# Altium integrated library Philips Microcontroller 16-Bit.IntLib: 30 symbols (part 2 of 2)
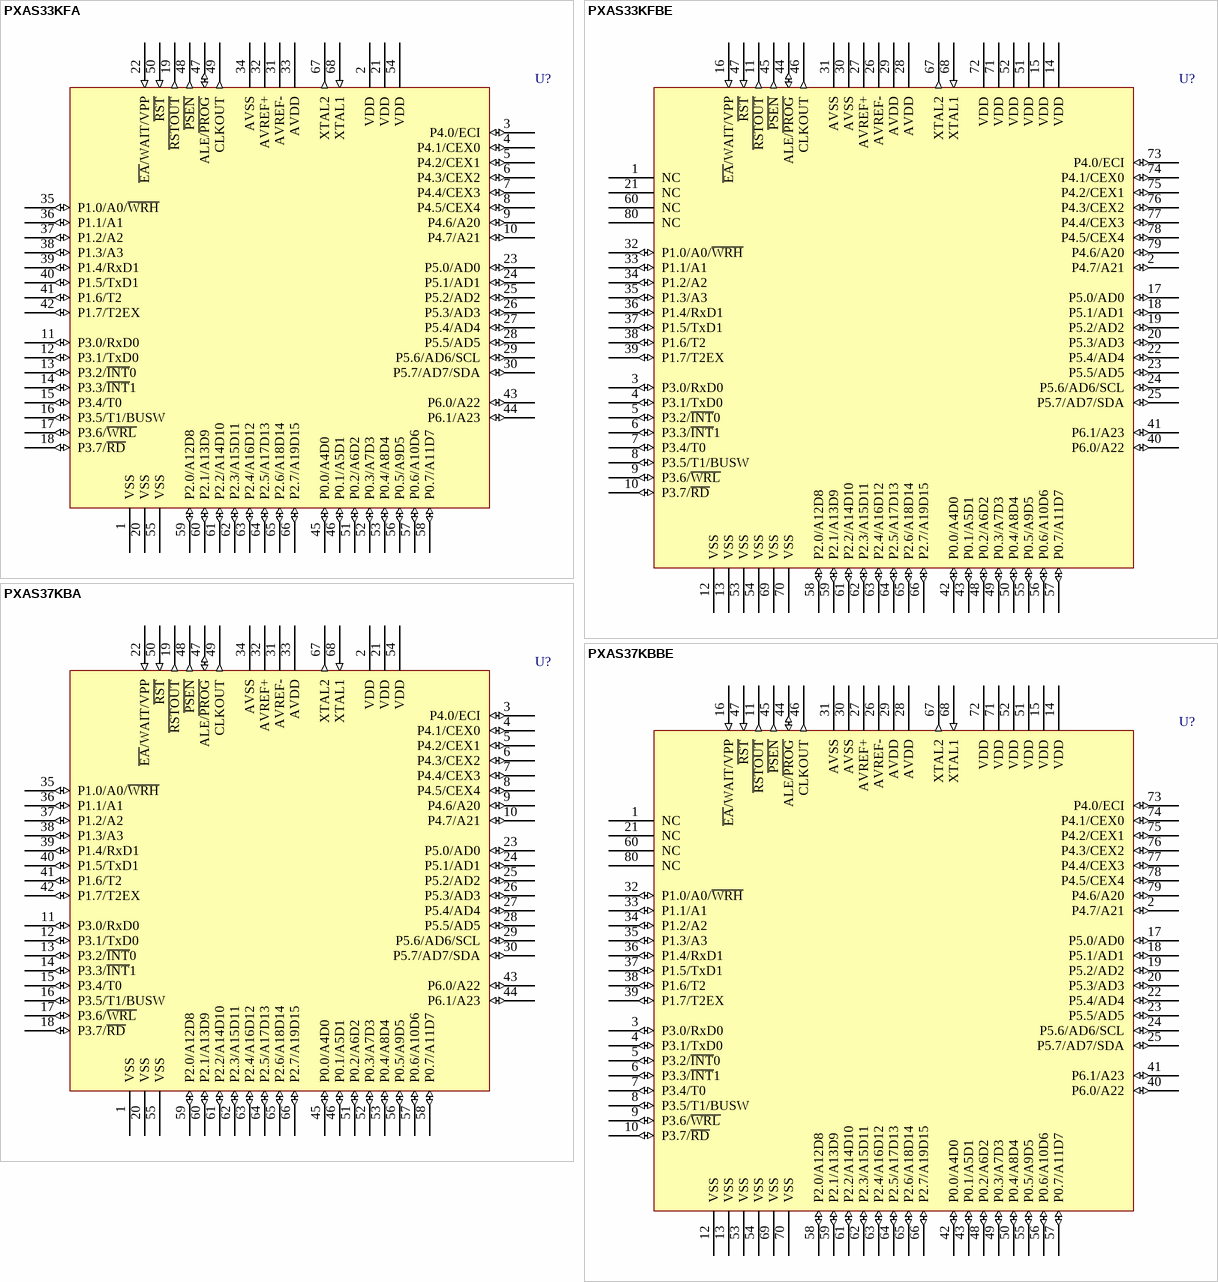
[diagram p6: symbols PXAS33KFA to PXAS37KBBE]

## PXAS33KFA
designator U?
XA 16-Bit Microcontroller Family, 32 K/1 K ROM, 8-Channel 8-bit A/D, Low Voltage (2.7 V - 5.5 V), I²C, 2 UARTs, 16 MB Address Range; Published: 21-May-2003; LatestRevisionDate: 13-Apr-2006; LatestRevisionNote: IPC-7351 Footprint Added.; DatasheetVersion: Dec-2000; PackageVersion: Dec-2000; PackageReference: SOT188-3; Publisher: Altium Limited; PackageDescription: 68-Pin Leaded Chip Carrier 1.27 mm Pitch; Code_JEDEC: MO-047; Code_IPC: PLCC-68; ComponentLink1Description: Manufacturer Link; ComponentLink1URL: http://www-us2.semiconductors.philips.com/; ComponentLink2Description: Datasheet; ComponentLink2URL: http://www.semiconductors.philips.com/acrobat/datasheets/XA-S3_10.pdf
footprint SOT188-3_N (Leaded Chip Carrier, 68-Leads, Body 24.2x24.2mm, Pitch 1.27mm, IPC Medium Density)
footprint SOT188-3_L (Leaded Chip Carrier, 68-Leads, Body 24.2x24.2mm, Pitch 1.27mm, IPC High Density)
footprint SOT188-3_M (Leaded Chip Carrier, 68-Leads, Body 24.2x24.2mm, Pitch 1.27mm, IPC Low Density)
pins: 1 VSS (power), 2 VDD (power), 3 P4.0/ECI (io), 4 P4.1/CEX0 (io), 5 P4.2/CEX1 (io), 6 P4.3/CEX2 (io), 7 P4.4/CEX3 (io), 8 P4.5/CEX4 (io), 9 P4.6/A20 (io), 10 P4.7/A21 (io), 11 P3.0/RxD0 (io), 12 P3.1/TxD0 (io), 13 P3.2/~{INT}0 (io), 14 P3.3/~{INT}1 (io), 15 P3.4/T0 (io), 16 P3.5/T1/BUSW (io), 17 P3.6/~{WRL} (io), 18 P3.7/~{RD} (io), 19 ~{RSTOUT} (out), 20 VSS (power), 21 VDD (power), 22 ~{EA}/WAIT/VPP (in), 23 P5.0/AD0 (io), 24 P5.1/AD1 (io), 25 P5.2/AD2 (io), 26 P5.3/AD3 (io), 27 P5.4/AD4 (io), 28 P5.5/AD5 (io), 29 P5.6/AD6/SCL (io), 30 P5.7/AD7/SDA (io), 31 AVREF-, 32 AVREF+, 33 AVDD (power), 34 AVSS (power), 35 P1.0/A0/~{WRH} (io), 36 P1.1/A1 (io), 37 P1.2/A2 (io), 38 P1.3/A3 (io), 39 P1.4/RxD1 (io), 40 P1.5/TxD1 (io), 41 P1.6/T2 (io), 42 P1.7/T2EX (io), 43 P6.0/A22 (io), 44 P6.1/A23 (io), 45 P0.0/A4D0 (io), 46 P0.1/A5D1 (io), 47 ALE/~{PROG} (io), 48 ~{PSEN} (out), 49 CLKOUT (out), 50 ~{RST} (in), 51 P0.2/A6D2 (io), 52 P0.3/A7D3 (io), 53 P0.4/A8D4 (io), 54 VDD (power), 55 VSS (power), 56 P0.5/A9D5 (io), 57 P0.6/A10D6 (io), 58 P0.7/A11D7 (io), 59 P2.0/A12D8 (io), 60 P2.1/A13D9 (io), 61 P2.2/A14D10 (io), 62 P2.3/A15D11 (io), 63 P2.4/A16D12 (io), 64 P2.5/A17D13 (io), 65 P2.6/A18D14 (io), 66 P2.7/A19D15 (io), 67 XTAL2 (out), 68 XTAL1 (in)

## PXAS33KFBE
designator U?
XA 16-Bit Microcontroller Family, 32 K/1 K ROM, 8-Channel 8-bit A/D, Low Voltage (2.7 V - 5.5 V), I²C, 2 UARTs, 16 MB Address Range; Published: 21-May-2003; LatestRevisionDate: 13-Apr-2006; LatestRevisionNote: IPC-7351 Footprint Added.; DatasheetVersion: Dec-2000; PackageVersion: Dec-2000; PackageReference: SOT315-1; Publisher: Altium Limited; PackageDescription: 80-Pin Thin Quad Flat Pack 0.5 mm Pitch; Code_JEDEC: MS-026; ComponentLink1Description: Manufacturer Link; ComponentLink1URL: http://www-us2.semiconductors.philips.com/; ComponentLink2Description: Datasheet; ComponentLink2URL: http://www.semiconductors.philips.com/acrobat/datasheets/XA-S3_10.pdf
footprint SOT315-1_N (Thin QFP, 80-Leads, Body 12x12mm, Pitch 0.5mm, IPC Medium Density)
footprint SOT315-1_L (Thin QFP, 80-Leads, Body 12x12mm, Pitch 0.5mm, IPC High Density)
footprint SOT315-1_M (Thin QFP, 80-Leads, Body 12x12mm, Pitch 0.5mm, IPC Low Density)
pins: 1 NC, 2 P4.7/A21 (io), 3 P3.0/RxD0 (io), 4 P3.1/TxD0 (io), 5 P3.2/~{INT}0 (io), 6 P3.3/~{INT}1 (io), 7 P3.4/T0 (io), 8 P3.5/T1/BUSW (io), 9 P3.6/~{WRL} (io), 10 P3.7/~{RD} (io), 11 ~{RSTOUT} (out), 12 VSS (power), 13 VSS (power), 14 VDD (power), 15 VDD (power), 16 ~{EA}/WAIT/VPP (in), 17 P5.0/AD0 (io), 18 P5.1/AD1 (io), 19 P5.2/AD2 (io), 20 P5.3/AD3 (io), 21 NC, 22 P5.4/AD4 (io), 23 P5.5/AD5 (io), 24 P5.6/AD6/SCL (io), 25 P5.7/AD7/SDA (io), 26 AVREF-, 27 AVREF+, 28 AVDD (power), 29 AVDD (power), 30 AVSS (power), 31 AVSS (power), 32 P1.0/A0/~{WRH} (io), 33 P1.1/A1 (io), 34 P1.2/A2 (io), 35 P1.3/A3 (io), 36 P1.4/RxD1 (io), 37 P1.5/TxD1 (io), 38 P1.6/T2 (io), 39 P1.7/T2EX (io), 40 P6.0/A22 (io), 41 P6.1/A23 (io), 42 P0.0/A4D0 (io), 43 P0.1/A5D1 (io), 44 ALE/~{PROG} (io), 45 ~{PSEN} (out), 46 CLKOUT (out), 47 ~{RST} (in), 48 P0.2/A6D2 (io), 49 P0.3/A7D3 (io), 50 P0.4/A8D4 (io), 51 VDD (power), 52 VDD (power), 53 VSS (power), 54 VSS (power), 55 P0.5/A9D5 (io), 56 P0.6/A10D6 (io), 57 P0.7/A11D7 (io), 58 P2.0/A12D8 (io), 59 P2.1/A13D9 (io), 60 NC, 61 P2.2/A14D10 (io), 62 P2.3/A15D11 (io), 63 P2.4/A16D12 (io), 64 P2.5/A17D13 (io), 65 P2.6/A18D14 (io), 66 P2.7/A19D15 (io), 67 XTAL2 (out), 68 XTAL1 (in), 69 VSS (power), 70 VSS (power), 71 VDD (power), 72 VDD (power), 73 P4.0/ECI (io), 74 P4.1/CEX0 (io), 75 P4.2/CEX1 (io), 76 P4.3/CEX2 (io), 77 P4.4/CEX3 (io), 78 P4.5/CEX4 (io), 79 P4.6/A20 (io), 80 NC

## PXAS37KBA
designator U?
XA 16-Bit Microcontroller Family, 32 K/1 K OTP, 8-Channel 8-bit A/D, Low Voltage (2.7 V - 5.5 V), I²C, 2 UARTs, 16 MB Address Range; Published: 21-May-2003; LatestRevisionDate: 13-Apr-2006; LatestRevisionNote: IPC-7351 Footprint Added.; DatasheetVersion: Dec-2000; PackageVersion: Dec-2000; PackageReference: SOT188-3; Publisher: Altium Limited; PackageDescription: 68-Pin Leaded Chip Carrier 1.27 mm Pitch; Code_JEDEC: MO-047; Code_IPC: PLCC-68; ComponentLink1Description: Manufacturer Link; ComponentLink1URL: http://www-us2.semiconductors.philips.com/; ComponentLink2Description: Datasheet; ComponentLink2URL: http://www.semiconductors.philips.com/acrobat/datasheets/XA-S3_10.pdf
footprint SOT188-3_N (Leaded Chip Carrier, 68-Leads, Body 24.2x24.2mm, Pitch 1.27mm, IPC Medium Density)
footprint SOT188-3_L (Leaded Chip Carrier, 68-Leads, Body 24.2x24.2mm, Pitch 1.27mm, IPC High Density)
footprint SOT188-3_M (Leaded Chip Carrier, 68-Leads, Body 24.2x24.2mm, Pitch 1.27mm, IPC Low Density)
pins: 1 VSS (power), 2 VDD (power), 3 P4.0/ECI (io), 4 P4.1/CEX0 (io), 5 P4.2/CEX1 (io), 6 P4.3/CEX2 (io), 7 P4.4/CEX3 (io), 8 P4.5/CEX4 (io), 9 P4.6/A20 (io), 10 P4.7/A21 (io), 11 P3.0/RxD0 (io), 12 P3.1/TxD0 (io), 13 P3.2/~{INT}0 (io), 14 P3.3/~{INT}1 (io), 15 P3.4/T0 (io), 16 P3.5/T1/BUSW (io), 17 P3.6/~{WRL} (io), 18 P3.7/~{RD} (io), 19 ~{RSTOUT} (out), 20 VSS (power), 21 VDD (power), 22 ~{EA}/WAIT/VPP (in), 23 P5.0/AD0 (io), 24 P5.1/AD1 (io), 25 P5.2/AD2 (io), 26 P5.3/AD3 (io), 27 P5.4/AD4 (io), 28 P5.5/AD5 (io), 29 P5.6/AD6/SCL (io), 30 P5.7/AD7/SDA (io), 31 AVREF-, 32 AVREF+, 33 AVDD (power), 34 AVSS (power), 35 P1.0/A0/~{WRH} (io), 36 P1.1/A1 (io), 37 P1.2/A2 (io), 38 P1.3/A3 (io), 39 P1.4/RxD1 (io), 40 P1.5/TxD1 (io), 41 P1.6/T2 (io), 42 P1.7/T2EX (io), 43 P6.0/A22 (io), 44 P6.1/A23 (io), 45 P0.0/A4D0 (io), 46 P0.1/A5D1 (io), 47 ALE/~{PROG} (io), 48 ~{PSEN} (out), 49 CLKOUT (out), 50 ~{RST} (in), 51 P0.2/A6D2 (io), 52 P0.3/A7D3 (io), 53 P0.4/A8D4 (io), 54 VDD (power), 55 VSS (power), 56 P0.5/A9D5 (io), 57 P0.6/A10D6 (io), 58 P0.7/A11D7 (io), 59 P2.0/A12D8 (io), 60 P2.1/A13D9 (io), 61 P2.2/A14D10 (io), 62 P2.3/A15D11 (io), 63 P2.4/A16D12 (io), 64 P2.5/A17D13 (io), 65 P2.6/A18D14 (io), 66 P2.7/A19D15 (io), 67 XTAL2 (out), 68 XTAL1 (in)

## PXAS37KBBE
designator U?
XA 16-Bit Microcontroller Family, 32 K/1 K OTP, 8-Channel 8-bit A/D, Low Voltage (2.7 V - 5.5 V), I²C, 2 UARTs, 16 MB Address Range; Published: 21-May-2003; LatestRevisionDate: 13-Apr-2006; LatestRevisionNote: IPC-7351 Footprint Added.; DatasheetVersion: Dec-2000; PackageVersion: Dec-2000; PackageReference: SOT315-1; Publisher: Altium Limited; PackageDescription: 80-Pin Thin Quad Flat Pack 0.5 mm Pitch; Code_JEDEC: MS-026; ComponentLink1Description: Manufacturer Link; ComponentLink1URL: http://www-us2.semiconductors.philips.com/; ComponentLink2Description: Datasheet; ComponentLink2URL: http://www.semiconductors.philips.com/acrobat/datasheets/XA-S3_10.pdf
footprint SOT315-1_N (Thin QFP, 80-Leads, Body 12x12mm, Pitch 0.5mm, IPC Medium Density)
footprint SOT315-1_L (Thin QFP, 80-Leads, Body 12x12mm, Pitch 0.5mm, IPC High Density)
footprint SOT315-1_M (Thin QFP, 80-Leads, Body 12x12mm, Pitch 0.5mm, IPC Low Density)
pins: 1 NC, 2 P4.7/A21 (io), 3 P3.0/RxD0 (io), 4 P3.1/TxD0 (io), 5 P3.2/~{INT}0 (io), 6 P3.3/~{INT}1 (io), 7 P3.4/T0 (io), 8 P3.5/T1/BUSW (io), 9 P3.6/~{WRL} (io), 10 P3.7/~{RD} (io), 11 ~{RSTOUT} (out), 12 VSS (power), 13 VSS (power), 14 VDD (power), 15 VDD (power), 16 ~{EA}/WAIT/VPP (in), 17 P5.0/AD0 (io), 18 P5.1/AD1 (io), 19 P5.2/AD2 (io), 20 P5.3/AD3 (io), 21 NC, 22 P5.4/AD4 (io), 23 P5.5/AD5 (io), 24 P5.6/AD6/SCL (io), 25 P5.7/AD7/SDA (io), 26 AVREF-, 27 AVREF+, 28 AVDD (power), 29 AVDD (power), 30 AVSS (power), 31 AVSS (power), 32 P1.0/A0/~{WRH} (io), 33 P1.1/A1 (io), 34 P1.2/A2 (io), 35 P1.3/A3 (io), 36 P1.4/RxD1 (io), 37 P1.5/TxD1 (io), 38 P1.6/T2 (io), 39 P1.7/T2EX (io), 40 P6.0/A22 (io), 41 P6.1/A23 (io), 42 P0.0/A4D0 (io), 43 P0.1/A5D1 (io), 44 ALE/~{PROG} (io), 45 ~{PSEN} (out), 46 CLKOUT (out), 47 ~{RST} (in), 48 P0.2/A6D2 (io), 49 P0.3/A7D3 (io), 50 P0.4/A8D4 (io), 51 VDD (power), 52 VDD (power), 53 VSS (power), 54 VSS (power), 55 P0.5/A9D5 (io), 56 P0.6/A10D6 (io), 57 P0.7/A11D7 (io), 58 P2.0/A12D8 (io), 59 P2.1/A13D9 (io), 60 NC, 61 P2.2/A14D10 (io), 62 P2.3/A15D11 (io), 63 P2.4/A16D12 (io), 64 P2.5/A17D13 (io), 65 P2.6/A18D14 (io), 66 P2.7/A19D15 (io), 67 XTAL2 (out), 68 XTAL1 (in), 69 VSS (power), 70 VSS (power), 71 VDD (power), 72 VDD (power), 73 P4.0/ECI (io), 74 P4.1/CEX0 (io), 75 P4.2/CEX1 (io), 76 P4.3/CEX2 (io), 77 P4.4/CEX3 (io), 78 P4.5/CEX4 (io), 79 P4.6/A20 (io), 80 NC

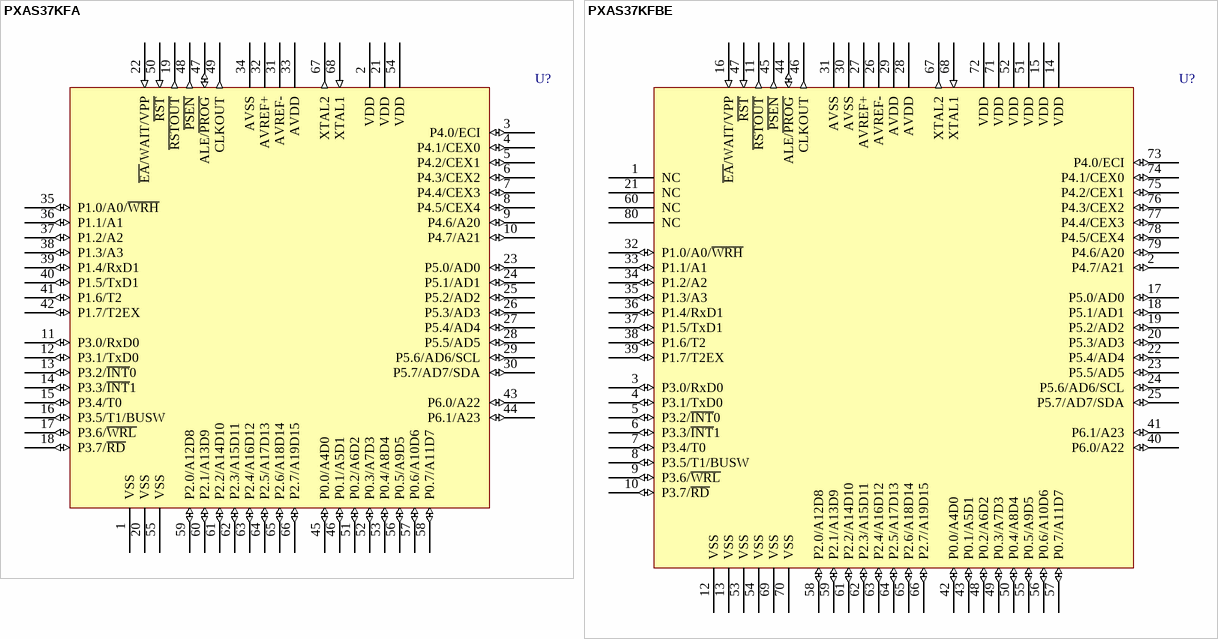
[diagram p5: symbols PXAS37KFA to PXAS37KFBE]

## PXAS37KFA
designator U?
XA 16-Bit Microcontroller Family, 32 K/1 K OTP, 8-Channel 8-bit A/D, Low Voltage (2.7 V - 5.5 V), I²C, 2 UARTs, 16 MB Address Range; Published: 21-May-2003; LatestRevisionDate: 13-Apr-2006; LatestRevisionNote: IPC-7351 Footprint Added.; DatasheetVersion: Dec-2000; PackageVersion: Dec-2000; PackageReference: SOT188-3; Publisher: Altium Limited; PackageDescription: 68-Pin Leaded Chip Carrier 1.27 mm Pitch; Code_JEDEC: MO-047; Code_IPC: PLCC-68; ComponentLink1Description: Manufacturer Link; ComponentLink1URL: http://www-us2.semiconductors.philips.com/; ComponentLink2Description: Datasheet; ComponentLink2URL: http://www.semiconductors.philips.com/acrobat/datasheets/XA-S3_10.pdf
footprint SOT188-3_N (Leaded Chip Carrier, 68-Leads, Body 24.2x24.2mm, Pitch 1.27mm, IPC Medium Density)
footprint SOT188-3_L (Leaded Chip Carrier, 68-Leads, Body 24.2x24.2mm, Pitch 1.27mm, IPC High Density)
footprint SOT188-3_M (Leaded Chip Carrier, 68-Leads, Body 24.2x24.2mm, Pitch 1.27mm, IPC Low Density)
pins: 1 VSS (power), 2 VDD (power), 3 P4.0/ECI (io), 4 P4.1/CEX0 (io), 5 P4.2/CEX1 (io), 6 P4.3/CEX2 (io), 7 P4.4/CEX3 (io), 8 P4.5/CEX4 (io), 9 P4.6/A20 (io), 10 P4.7/A21 (io), 11 P3.0/RxD0 (io), 12 P3.1/TxD0 (io), 13 P3.2/~{INT}0 (io), 14 P3.3/~{INT}1 (io), 15 P3.4/T0 (io), 16 P3.5/T1/BUSW (io), 17 P3.6/~{WRL} (io), 18 P3.7/~{RD} (io), 19 ~{RSTOUT} (out), 20 VSS (power), 21 VDD (power), 22 ~{EA}/WAIT/VPP (in), 23 P5.0/AD0 (io), 24 P5.1/AD1 (io), 25 P5.2/AD2 (io), 26 P5.3/AD3 (io), 27 P5.4/AD4 (io), 28 P5.5/AD5 (io), 29 P5.6/AD6/SCL (io), 30 P5.7/AD7/SDA (io), 31 AVREF-, 32 AVREF+, 33 AVDD (power), 34 AVSS (power), 35 P1.0/A0/~{WRH} (io), 36 P1.1/A1 (io), 37 P1.2/A2 (io), 38 P1.3/A3 (io), 39 P1.4/RxD1 (io), 40 P1.5/TxD1 (io), 41 P1.6/T2 (io), 42 P1.7/T2EX (io), 43 P6.0/A22 (io), 44 P6.1/A23 (io), 45 P0.0/A4D0 (io), 46 P0.1/A5D1 (io), 47 ALE/~{PROG} (io), 48 ~{PSEN} (out), 49 CLKOUT (out), 50 ~{RST} (in), 51 P0.2/A6D2 (io), 52 P0.3/A7D3 (io), 53 P0.4/A8D4 (io), 54 VDD (power), 55 VSS (power), 56 P0.5/A9D5 (io), 57 P0.6/A10D6 (io), 58 P0.7/A11D7 (io), 59 P2.0/A12D8 (io), 60 P2.1/A13D9 (io), 61 P2.2/A14D10 (io), 62 P2.3/A15D11 (io), 63 P2.4/A16D12 (io), 64 P2.5/A17D13 (io), 65 P2.6/A18D14 (io), 66 P2.7/A19D15 (io), 67 XTAL2 (out), 68 XTAL1 (in)

## PXAS37KFBE
designator U?
XA 16-Bit Microcontroller Family, 32 K/1 K OTP, 8-Channel 8-bit A/D, Low Voltage (2.7 V - 5.5 V), I²C, 2 UARTs, 16 MB Address Range; Published: 21-May-2003; LatestRevisionDate: 13-Apr-2006; LatestRevisionNote: IPC-7351 Footprint Added.; DatasheetVersion: Dec-2000; PackageVersion: Dec-2000; PackageReference: SOT315-1; Publisher: Altium Limited; PackageDescription: 80-Pin Thin Quad Flat Pack 0.5 mm Pitch; Code_JEDEC: MS-026; ComponentLink1Description: Manufacturer Link; ComponentLink1URL: http://www-us2.semiconductors.philips.com/; ComponentLink2Description: Datasheet; ComponentLink2URL: http://www.semiconductors.philips.com/acrobat/datasheets/XA-S3_10.pdf
footprint SOT315-1_N (Thin QFP, 80-Leads, Body 12x12mm, Pitch 0.5mm, IPC Medium Density)
footprint SOT315-1_L (Thin QFP, 80-Leads, Body 12x12mm, Pitch 0.5mm, IPC High Density)
footprint SOT315-1_M (Thin QFP, 80-Leads, Body 12x12mm, Pitch 0.5mm, IPC Low Density)
pins: 1 NC, 2 P4.7/A21 (io), 3 P3.0/RxD0 (io), 4 P3.1/TxD0 (io), 5 P3.2/~{INT}0 (io), 6 P3.3/~{INT}1 (io), 7 P3.4/T0 (io), 8 P3.5/T1/BUSW (io), 9 P3.6/~{WRL} (io), 10 P3.7/~{RD} (io), 11 ~{RSTOUT} (out), 12 VSS (power), 13 VSS (power), 14 VDD (power), 15 VDD (power), 16 ~{EA}/WAIT/VPP (in), 17 P5.0/AD0 (io), 18 P5.1/AD1 (io), 19 P5.2/AD2 (io), 20 P5.3/AD3 (io), 21 NC, 22 P5.4/AD4 (io), 23 P5.5/AD5 (io), 24 P5.6/AD6/SCL (io), 25 P5.7/AD7/SDA (io), 26 AVREF-, 27 AVREF+, 28 AVDD (power), 29 AVDD (power), 30 AVSS (power), 31 AVSS (power), 32 P1.0/A0/~{WRH} (io), 33 P1.1/A1 (io), 34 P1.2/A2 (io), 35 P1.3/A3 (io), 36 P1.4/RxD1 (io), 37 P1.5/TxD1 (io), 38 P1.6/T2 (io), 39 P1.7/T2EX (io), 40 P6.0/A22 (io), 41 P6.1/A23 (io), 42 P0.0/A4D0 (io), 43 P0.1/A5D1 (io), 44 ALE/~{PROG} (io), 45 ~{PSEN} (out), 46 CLKOUT (out), 47 ~{RST} (in), 48 P0.2/A6D2 (io), 49 P0.3/A7D3 (io), 50 P0.4/A8D4 (io), 51 VDD (power), 52 VDD (power), 53 VSS (power), 54 VSS (power), 55 P0.5/A9D5 (io), 56 P0.6/A10D6 (io), 57 P0.7/A11D7 (io), 58 P2.0/A12D8 (io), 59 P2.1/A13D9 (io), 60 NC, 61 P2.2/A14D10 (io), 62 P2.3/A15D11 (io), 63 P2.4/A16D12 (io), 64 P2.5/A17D13 (io), 65 P2.6/A18D14 (io), 66 P2.7/A19D15 (io), 67 XTAL2 (out), 68 XTAL1 (in), 69 VSS (power), 70 VSS (power), 71 VDD (power), 72 VDD (power), 73 P4.0/ECI (io), 74 P4.1/CEX0 (io), 75 P4.2/CEX1 (io), 76 P4.3/CEX2 (io), 77 P4.4/CEX3 (io), 78 P4.5/CEX4 (io), 79 P4.6/A20 (io), 80 NC